# Altium schematic symbol library PBL - Test Points.SCHLIB: 5 symbols
Pins are listed as number, name and electrical type; pins without a type are passive.

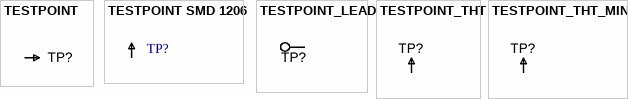
[diagram p0: symbols TESTPOINT to TESTPOINT_THT_MINI]

## TESTPOINT
designator TP?  (value not drawn)  (no BOM)
SMD test pin
footprint TP-R60
footprint THP_D38_T75_B75 (Thru-Hole Pad with 75mil top and 75mil bottom annular rings)
footprint TP-R30
footprint TP-R40
footprint TP-R20
pins: 1

## TESTPOINT SMD 1206
designator TP?  (value not drawn)
Manufacturer: TE Connectivity AMP Connectors; Manufacturer Part Number: RCS-0C; Description: 1206 PROBE PAD; Material - Insulation: No Insulation; Supplier 1: Digi-Key; Supplier Part Number 1: A106143CT-ND; RoHS: RoHS Compliant; Category: Test and Measurement; Stock 1: 28093; Pricing 1: 1=0.28, 10=0.261, 25=0.224, 50=0.1902, 100=0.1828, 250=0.16412, 500=0.15668, 1000=0.13056 (USD); Packaging: Cut Tape (CT); Part Status: Active; Type: PC Test Point; Mounting Type: Surface Mount; Color: Natural; Size / Dimension: 0.126" L x 0.063" W (3.20mm x 1.60mm); Height: 0.049" (1.25mm); Plating: -; Material - Body: -; ComponentLink1URL: http://www.te.com/commerce/DocumentDelivery/DDEController?Action=srchrtrv&DocNm=1773266&DocType=DS&DocLang=English; ComponentLink1Description: http://www.te.com/commerce/DocumentDelivery/DDEController?Action=srchrtrv&DocNm=1773266&DocType=DS&DocLang=English
footprint 1206 Test Point
pins: 1

## TESTPOINT_LEAD
designator TP?  (no BOM)
TEST POINT
footprint THP_D46_T80_B80 (Footprint not found)
pins: 1

## TESTPOINT_THT
designator TP?  (value not drawn)
Test Point PCB mount Multi-purpose Yellow; Manufacturer 1: Keystone Electronics; Manufacturer Part Number 1: 5014; PBL Part Number: 3100-xxx; Description 1: TEST POINT PC MULTI PURPOSE YEL; Supplier 1: Digi-Key; Supplier Part Number 1: 5014K-ND; Mounting Type: 0.063" (1.600mm) Hole Diameter; Material: Base, Nylon 46, UL 94V-0
footprint TP-THT-MULTI (Thru-hole test point loop)
pins: 1

## TESTPOINT_THT_MINI
designator TP?  (value not drawn)
Test Point PCB mount Miniature White; PBL Part Number: 3100-567; Manufacturer 1: Keystone Electronics; Manufacturer Part Number 1: 5002; Mounting Type: 0.040" (1.0mm) Hole Diameter; Material: Base, Nylon 46, UL 94V-0; Supplier 1: Digi-Key; Supplier Part Number 1: 5002K-ND
footprint TP-THT-MINI (Thru-hole test point loop)
pins: 1